# EAGLE library part LM3658 (library howell)
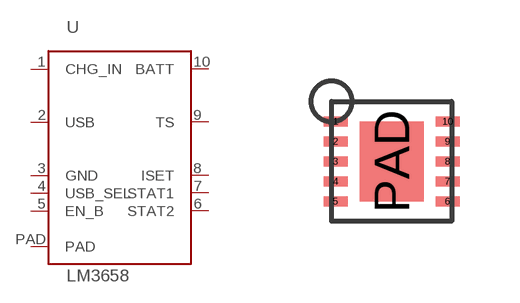
[diagram p9: symbol with the pads of WSON10; footprint WSON10]

Designator prefix -

## LM3658  [WSON10]
1  CHG_IN
2  USB
3  GND
4  USB_SEL
5  EN_B
6  STAT2
7  STAT1
8  ISET
9  TS
10  BATT
PAD  PAD

## Footprint WSON10 (pad centres in mm)
smd 0.6 x 0.25: 1 -1.4,1; 2 -1.4,0.5; 3 -1.4,0; 4 -1.4,-0.5; 5 -1.4,-1; 6 1.4,-1; 7 1.4,-0.5; 8 1.4,0; 9 1.4,0.5; 10 1.4,1
smd 1.6 x 2: PAD 0,0